# Altium schematic symbol library QUTMS_InterfaceLibrary.SchLib: 2 symbols
Pins are listed as number, name and electrical type; pins without a type are passive.

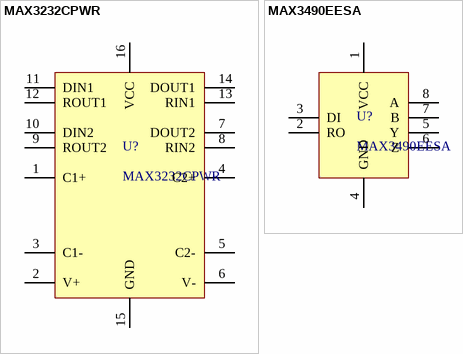
[diagram p0: symbols MAX3232CPWR to MAX3490EESA]

## MAX3232CPWR
designator U?
MAX3232CPWR - IC, LINE DRIVER, 3-5.5V, SMD
footprint MAX3232CPWR
pins: 1 C1+, 2 V+ (power), 3 C1-, 4 C2+, 5 C2-, 6 V- (power), 7 DOUT2, 8 RIN2, 9 ROUT2, 10 DIN2, 11 DIN1, 12 ROUT1, 13 RIN1, 14 DOUT1, 15 GND (power), 16 VCC (power)

## MAX3490EESA
designator U?
IC, RS422/RS485 TRANSCEIVER, 3.6V, SOIC8
footprint MAX3490EESA
pins: 1 VCC, 2 RO, 3 DI, 4 GND, 5 Y, 6 Z, 7 B, 8 A